# Altium schematic symbol library Common Passives.SchLib: 19 symbols
Pins are listed as number, name and electrical type; pins without a type are passive.

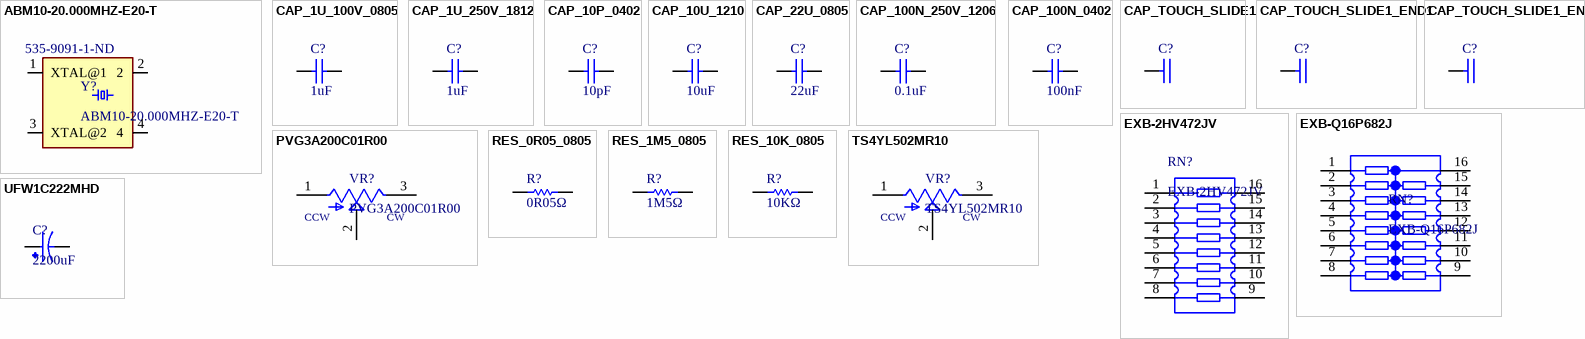
[diagram p0: symbols ABM10-20.000MHZ-E20-T to UFW1C222MHD]

## ABM10-20.000MHZ-E20-T
designator Y?  Supplier Part Number 1: 535-9091-1-ND
Crystal 12.00mhz 8pf Low Esr Smd; Package: None; Price: None; Value: *; MP: ABM10-20.000MHZ-E20-T; Availability: Unavailable; Supplier 1: Digi-Key
footprint XTAL250X200X50
pins: 1 XTAL@1, 2 (power), 3 XTAL@2, 4 (power)

## CAP_1U_100V_0805
designator C?, comment 1uF
CAP CER 1UF 100V X7R 0805; Published: 8-Jun-2000; LatestRevisionDate: 17-Jul-2002; LatestRevisionNote: Re-released for DXP Platform.; Publisher: Altium Limited; PackageDescription: Radial Cap, Thru-Hole; 2 Leads; 0.3 in Pin Spacing; PackageReference: RAD-0.3; Supplier 1: Digi-Key; Supplier Part Number 1: 478-12143-1-ND
footprint 0805-CAP (Chip Capacitor)
pins: 1, 2

## CAP_1U_250V_1812
designator C?, comment 1uF
CAP CER 1UF 250V X7R 1812; Published: 8-Jun-2000; LatestRevisionDate: 17-Jul-2002; LatestRevisionNote: Re-released for DXP Platform.; Publisher: Altium Limited; PackageDescription: Radial Cap, Thru-Hole; 2 Leads; 0.3 in Pin Spacing; PackageReference: RAD-0.3; Supplier 1: Mouser; Supplier Part Number 1: 791-1812B105K251CT
footprint 1812-CAP
pins: 1, 2

## CAP_10P_0402
designator C?, comment 10pF
CAP CER 10PF 16V NP0 0402; Published: 8-Jun-2000; LatestRevisionDate: 17-Jul-2002; LatestRevisionNote: Re-released for DXP Platform.; Publisher: Altium Limited; PackageDescription: Radial Cap, Thru-Hole; 2 Leads; 0.3 in Pin Spacing; PackageReference: RAD-0.3; Supplier 1: Digi-Key; Supplier Part Number 1: 478-12649-1-ND
footprint 0402_CAP
pins: 1, 2

## CAP_10U_1210
designator C?, comment 10uF
CAP CER 10UF 25V X7R 1210; Published: 8-Jun-2000; LatestRevisionDate: 17-Jul-2002; LatestRevisionNote: Re-released for DXP Platform.; Publisher: Altium Limited; PackageDescription: Radial Cap, Thru-Hole; 2 Leads; 0.3 in Pin Spacing; PackageReference: RAD-0.3; Supplier 1: Digi-Key; Supplier Part Number 1: 445-8792-1-ND
footprint 1210-CAP
pins: 1, 2

## CAP_22U_0805
designator C?, comment 22uF
CAP CER 22UF 16V X5R 0805; Published: 8-Jun-2000; LatestRevisionDate: 17-Jul-2002; LatestRevisionNote: Re-released for DXP Platform.; Publisher: Altium Limited; PackageDescription: Radial Cap, Thru-Hole; 2 Leads; 0.3 in Pin Spacing; PackageReference: RAD-0.3; Supplier 1: Digi-Key; Supplier Part Number 1: 1276-6526-1-ND
footprint 0805-CAP (Chip Capacitor)
pins: 1, 2

## CAP_100N_250V_1206
designator C?, comment 0.1uF
CAP CER 0.1UF 250V X7R 1206; Published: 8-Jun-2000; LatestRevisionDate: 17-Jul-2002; LatestRevisionNote: Re-released for DXP Platform.; Publisher: Altium Limited; PackageDescription: Radial Cap, Thru-Hole; 2 Leads; 0.3 in Pin Spacing; PackageReference: RAD-0.3; Supplier 1: Mouser; Supplier Part Number 1: 710-885342208004
footprint 1206-CAP
pins: 1, 2

## CAP_100N_0402
designator C?, comment 100nF
CAP CER 0.1UF 16V X7R 0402; Published: 8-Jun-2000; LatestRevisionDate: 17-Jul-2002; LatestRevisionNote: Re-released for DXP Platform.; Publisher: Altium Limited; PackageDescription: Radial Cap, Thru-Hole; 2 Leads; 0.3 in Pin Spacing; PackageReference: RAD-0.3; Supplier 1: Digi-Key; Supplier Part Number 1: 587-1451-1-ND
footprint 0402_CAP
pins: 1, 2

## CAP_TOUCH_SLIDE1
designator C?, comment Human Body Model  (value not drawn)
Touch Sensor Pad, Slide Style 1; Published: 8-Jun-2000; LatestRevisionDate: 17-Jul-2002; LatestRevisionNote: Re-released for DXP Platform.; Publisher: Altium Limited; PackageDescription: Radial Cap, Thru-Hole; 2 Leads; 0.3 in Pin Spacing; PackageReference: RAD-0.3
footprint TOUCHSENSE_SLIDE1 (Touch Pad, Slide 1)
pins: 1

## CAP_TOUCH_SLIDE1_END1
designator C?, comment Human Body Model  (value not drawn)
Touch Sensor Pad, Slide Style 1; Published: 8-Jun-2000; LatestRevisionDate: 17-Jul-2002; LatestRevisionNote: Re-released for DXP Platform.; Publisher: Altium Limited; PackageDescription: Radial Cap, Thru-Hole; 2 Leads; 0.3 in Pin Spacing; PackageReference: RAD-0.3
footprint TOUCHSENSE_SLIDE1-END1 (Touch Pad, Slide 1)
pins: 1

## CAP_TOUCH_SLIDE1_END2
designator C?, comment Human Body Model  (value not drawn)
Touch Sensor Pad, Slide Style 1; Published: 8-Jun-2000; LatestRevisionDate: 17-Jul-2002; LatestRevisionNote: Re-released for DXP Platform.; Publisher: Altium Limited; PackageDescription: Radial Cap, Thru-Hole; 2 Leads; 0.3 in Pin Spacing; PackageReference: RAD-0.3
footprint TOUCHSENSE_SLIDE1-END2 (Touch Pad, Slide 1, END)
pins: 1

## EXB-2HV472JV
designator RN?
RES ARRAY 8 RES 4.7K OHM 1506; MF: {'manufacturer': u'Panasonic'}; MP: EXB-Q16P682J; Package: None; Price: None; Value: *; Availability: Unavailable; Supplier 1: Digi-Key; Supplier Part Number 1: Y1472CT-ND
footprint RES-ARRAY-16_EXB
pins: 1, 2, 3, 4, 5, 6, 7, 8, 9, 10, 11, 12, 13, 14, 15, 16

## EXB-Q16P682J
designator RN?
RES ARRAY 15 RES 6.8K OHM 1506; MF: {'manufacturer': u'Panasonic'}; Package: None; Price: None; Value: *; MP: EXB-Q16P682J; Availability: Unavailable; Supplier 1: Digi-Key; Supplier Part Number 1: U6682CT-ND
footprint RES-ARRAY-16_EXB
pins: 1, 2, 3, 4, 5, 6, 7, 8, 9, 10, 11, 12, 13, 14, 15, 16

## PVG3A200C01R00
designator VR?
TRIMMER 20 OHM 0.25W J LEAD TOP; MF: {'manufacturer': u'Bourns'}; MP: PVG3A200C01R00; Value: *; Price: None; Availability: Unavailable; Package: None; Supplier 1: Digi-Key; Supplier Part Number 1: 490-2647-1-ND
footprint PVG3A
pins: 1 CCW, 2 WIPER, 3 CW

## RES_0R05_0805
designator R?, comment 0R05Ω
RES SMD 0.05 OHM 1% 0.25W 0805; Published: 8-Jun-2000; LatestRevisionDate: 17-Jul-2002; LatestRevisionNote: Re-released for DXP Platform.; PackageReference: AXIAL-0.3; Publisher: Altium Limited; PackageDescription: Axial Device, Thru-Hole; 2 Leads; 0.3 in Pin Spacing; Supplier 1: Mouser; Supplier Part Number 1: 588-KDV08FR050ET
footprint 0805-RES
pins: 1, 2

## RES_1M5_0805
designator R?, comment 1M5Ω
RES SMD 1M5 OHM 1% 0.25W 0805; Published: 8-Jun-2000; LatestRevisionDate: 17-Jul-2002; LatestRevisionNote: Re-released for DXP Platform.; PackageReference: AXIAL-0.3; Publisher: Altium Limited; PackageDescription: Axial Device, Thru-Hole; 2 Leads; 0.3 in Pin Spacing; Supplier 1: Mouser; Supplier Part Number 1: 660-RK73H2ATTD1504F
footprint 0805-RES
pins: 1, 2

## RES_10K_0805
designator R?, comment 10KΩ
RES SMD 10K OHM 5% 0.5W 0805; Published: 8-Jun-2000; LatestRevisionDate: 17-Jul-2002; LatestRevisionNote: Re-released for DXP Platform.; PackageReference: AXIAL-0.3; Publisher: Altium Limited; PackageDescription: Axial Device, Thru-Hole; 2 Leads; 0.3 in Pin Spacing; Supplier 1: Mouser; Supplier Part Number 1: 667-ERJ-P06J103V
footprint 0805-RES
pins: 1, 2

## TS4YL502MR10
designator VR?
TRIMMER 25K OHM; MP: PVG3A200C01R00; MF: {'manufacturer': u'Bourns'}; Value: *; Price: None; Availability: Unavailable; Package: None; Supplier 1: Mouser; Supplier Part Number 1: 72-TS4YL-5K
footprint TS4YJ
pins: 1 CCW, 2 WIPER, 3 CW

## UFW1C222MHD
designator C?, comment 2200uF
CAP ALUM 2200UF 20% 16V RADIAL; MP: EEUHD1V681B; MF: Panasonic; Package: RADIAL-2 Panasonic; Availability: In Stock; Value: *; Purchase-URL: https://pricing.snapeda.com/search/part/EEUHD1V681B/?ref=eda; Check_prices: https://www.snapeda.com/parts/EEUHD1V681B/Panasonic/view-part/5784870/?ref=eda; Price: None; SnapEDA_Link: https://www.snapeda.com/parts/EEUHD1V681B/Panasonic/view-part/5784870/?ref=snap; Supplier 1: Digi-Key; Supplier Part Number 1: 493-15122-ND
footprint CAP-RADIAL-12.5MM
pins: N, P